# Altium schematic symbol library EverLight Infrared Remote Control Receiver Module.SchLib: 3 symbols
Pins are listed as number, name and electrical type; pins without a type are passive.

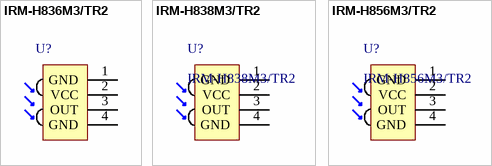
[diagram p0: symbols IRM-H836M3/TR2 to IRM-H856M3/TR2]

## IRM-H836M3/TR2
designator U?
Infrared Remote Control Receiver Module; Manufacture: EVERLIGHT; Part Number: IRM-H836M3/TR2; Package: SMT, 4-Leads, Body 6.60x2.50mm, Pitch 1.27mm
footprint IRM-H8xxM3
pins: 1 GND, 2 VCC, 3 OUT, 4 GND

## IRM-H838M3/TR2
designator U?
Infrared Remote Control Receiver Module; Manufacture: EVERLIGHT; Part Number: IRM-H838M3/TR2; Package: SMT, 4-Leads, Body 6.60x2.50mm, Pitch 1.27mm
footprint IRM-H8xxM3
pins: 1 GND, 2 VCC, 3 OUT, 4 GND

## IRM-H856M3/TR2
designator U?
Infrared Remote Control Receiver Module; Manufacture: EVERLIGHT; Part Number: IRM-H856M3/TR2; Package: SMT, 4-Leads, Body 6.60x2.50mm, Pitch 1.27mm
footprint IRM-H8xxM3
pins: 1 GND, 2 VCC, 3 OUT, 4 GND